# EAGLE library part SW_DPDT_ (library DPDT)
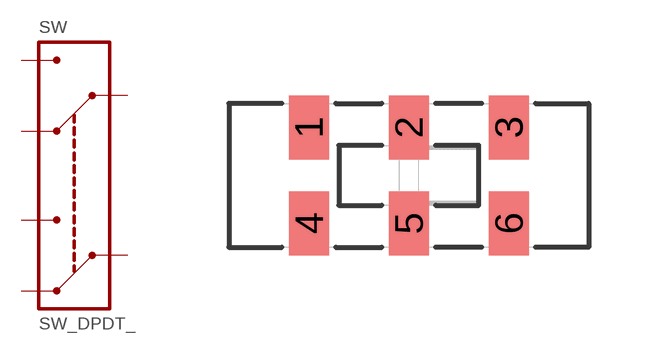
[diagram p0: symbol with the pads of JS202011JCQN; footprint JS202011JCQN]

Designator prefix SW

## SW_DPDT_JS202011JCQN  [JS202011JCQN]
1  1
2  2
3  3
4  4
5  5
6  6

## Footprint JS202011JCQN (pad centres in mm)
smd 1 x 1.6: 1 -2.5,1.2; 2 0,1.2; 3 2.5,1.2; 4 -2.5,-1.2; 5 0,-1.2; 6 2.5,-1.2